# Altium footprint library linear.PCBLIB: 119 footprints (part 4 of 8)
Each footprint in its own frame and in the unit in brackets; x right, y up, seen from the top. Pads: shape width x height; smd on the part's side, far side on the other; paste and mask are expansions set on the pad; w line width, h text height; cw(c..) or ccw(c..) is an arc to the next point about the centre after c.
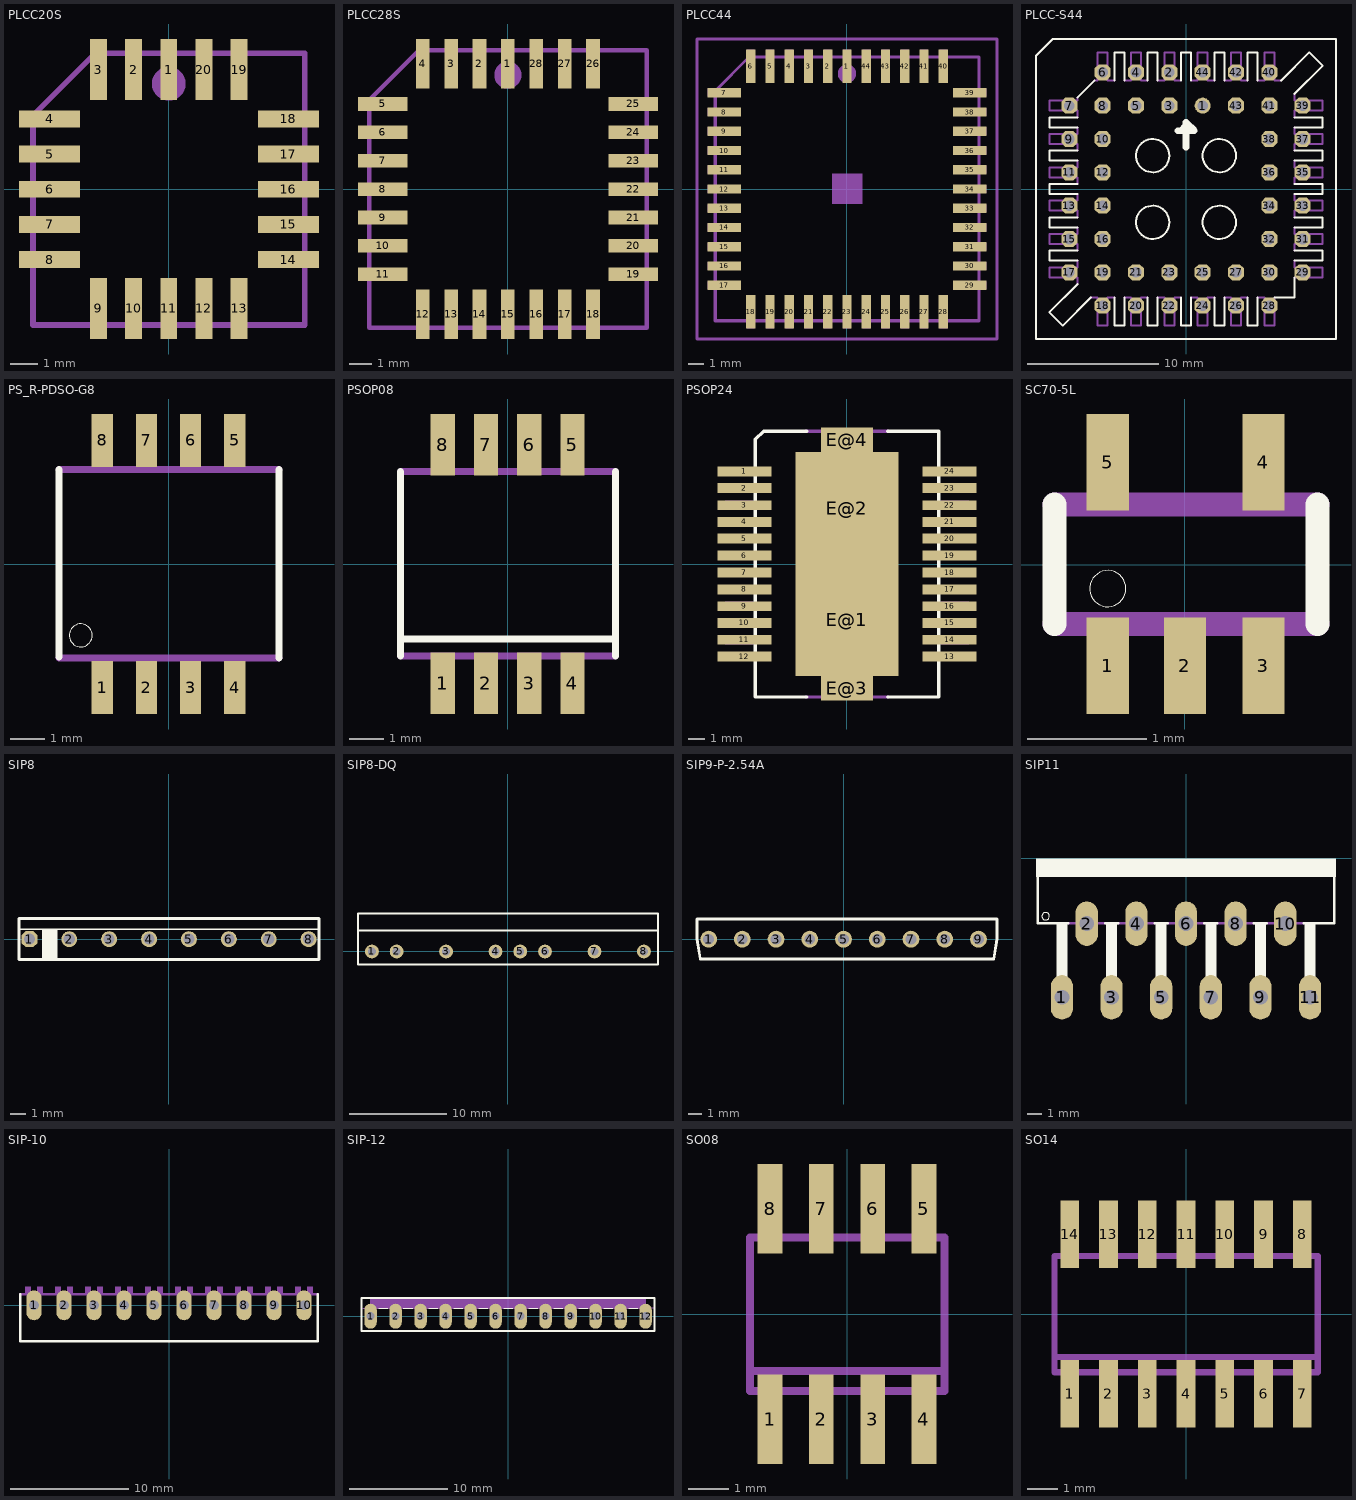
[diagram p3: the footprints below, top view; thin cyan lines are the x and y axes]

## PLCC20S [mil]
pads (20):
  rect 24x87 smd: 1(0,170) 2(-50,170) 3(-100,170) 9(-100,-169.29) 10(-50,-169.29) 11(0,-169.29) 12(50,-169.29) 13(100,-169.29) 19(100,170) 20(50,170)
  rect 87x24 smd: 4(-169.29,100) 5(-169.29,50) 6(-169.29,0) 7(-169.29,-50) 8(-169.29,-100) 14(170,-100) 15(170,-50) 16(170,0) 17(170,50) 18(170,100)
Mechanical 16:
  circle w24: c0,150 r12
  rectangle: -10.24,195 11,213
  rectangle: -60.24,195 -39.76,213
  rectangle: -110.24,195 -89.76,213
  rectangle: -212.6,90 -194.88,111
  rectangle: -212.6,40 -194.88,61
  rectangle: -212.6,-10.24 -194.88,11
  rectangle: -212.6,-60.24 -194.88,-39.76
  rectangle: -212.6,-110.24 -194.88,-89.76
  rectangle: -110.24,-212.6 -89.76,-194.88
  rectangle: -60.24,-212.6 -39.76,-194.88
  rectangle: -10.24,-212.6 11,-194.88
  rectangle: 40,-212.6 61,-194.88
  rectangle: 90,-212.6 111,-194.88
  rectangle: 195,-110.24 213,-89.76
  rectangle: 195,-60.24 213,-39.76
  rectangle: 195,-10.24 213,11
  rectangle: 195,40 213,61
  rectangle: 195,90 213,111
  rectangle: 90,195 111,213
  rectangle: 40,195 61,213
  lines w8: -192.91,-192.91 -192.91,105 -104.92,193 193,193 193,-192.91 -192.91,-192.91

## PLCC28S [mil]
pads (28):
  rect 24x87 smd: 1(0,221) 2(-50,221) 3(-100,221) 4(-150,221) 12(-150,-220.47) 13(-100,-220.47) 14(-50,-220.47) 15(0,-220.47) 16(50,-220.47) 17(100,-220.47) 18(150,-220.47) 26(150,221) 27(100,221) 28(50,221)
  rect 87x24 smd: 5(-220.47,150) 6(-220.47,100) 7(-220.47,50) 8(-220.47,0) 9(-220.47,-50) 10(-220.47,-100) 11(-220.47,-150) 19(221,-150) 20(221,-100) 21(221,-50) 22(221,0) 23(221,50) 24(221,100) 25(221,150)
Mechanical 16:
  circle w24: c0,201 r12
  rectangle: -10.24,247 11,264
  rectangle: -60.24,247 -39.76,264
  rectangle: -110.24,247 -89.76,264
  rectangle: -160.24,247 -139.76,264
  rectangle: -263.78,140 -246.06,161
  rectangle: -263.78,90 -246.06,111
  rectangle: -263.78,40 -246.06,61
  rectangle: -263.78,-10.24 -246.06,11
  rectangle: -263.78,-60.24 -246.06,-39.76
  rectangle: -263.78,-110.24 -246.06,-89.76
  rectangle: -263.78,-160.24 -246.06,-139.76
  rectangle: -160.24,-263.78 -139.76,-246.06
  rectangle: -110.24,-263.78 -89.76,-246.06
  rectangle: -60.24,-263.78 -39.76,-246.06
  rectangle: -10.24,-263.78 11,-246.06
  rectangle: 40,-263.78 61,-246.06
  rectangle: 90,-263.78 111,-246.06
  rectangle: 140,-263.78 161,-246.06
  rectangle: 247,-160.24 264,-139.76
  rectangle: 247,-110.24 264,-89.76
  rectangle: 247,-60.24 264,-39.76
  rectangle: 247,-10.24 264,11
  rectangle: 247,40 264,61
  rectangle: 247,90 264,111
  rectangle: 247,140 264,161
  rectangle: 140,247 161,264
  rectangle: 90,247 111,264
  rectangle: 40,247 61,264
  lines w8: -244.09,-244.09 -244.09,157 -156.1,245 245,245 245,-244.09 -244.09,-244.09

## PLCC44 [mil]
pads (44):
  rect 24x87 smd: 1(0,319) 2(-50,319) 3(-100,319) 4(-150,319) 5(-200,319) 6(-250,319) 18(-250,-318.9) 19(-200,-318.9) 20(-150,-318.9) 21(-100,-318.9) 22(-50,-318.9) 23(0,-318.9) 24(50,-318.9) 25(100,-318.9) 26(150,-318.9) 27(200,-318.9) 28(250,-318.9) 40(250,319) 41(200,319) 42(150,319) 43(100,319) 44(50,319)
  rect 87x24 smd: 7(-318.9,250) 8(-318.9,200) 9(-318.9,150) 10(-318.9,100) 11(-318.9,50) 12(-318.9,0) 13(-318.9,-50) 14(-318.9,-100) 15(-318.9,-150) 16(-318.9,-200) 17(-318.9,-250) 29(319,-250) 30(319,-200) 31(319,-150) 32(319,-100) 33(319,-50) 34(319,0) 35(319,50) 36(319,100) 37(319,150) 38(319,200) 39(319,250)
Mechanical 6:
  rectangle: -39.37,-39.37 40,40
Mechanical 16:
  circle w24: c0,300 r12
  rectangle: -10.24,345 11,363
  rectangle: -60.24,345 -39.76,363
  rectangle: -110.24,345 -89.76,363
  rectangle: -160.24,345 -139.76,363
  rectangle: -210.24,345 -189.76,363
  rectangle: -260.24,345 -239.76,363
  rectangle: -362.2,240 -344.49,261
  rectangle: -362.2,190 -344.49,211
  rectangle: -362.2,140 -344.49,161
  rectangle: -362.2,90 -344.49,111
  rectangle: -362.2,40 -344.49,61
  rectangle: -362.2,-10.24 -344.49,11
  rectangle: -362.2,-60.24 -344.49,-39.76
  rectangle: -362.2,-110.24 -344.49,-89.76
  rectangle: -362.2,-160.24 -344.49,-139.76
  rectangle: -362.2,-210.24 -344.49,-189.76
  rectangle: -362.2,-260.24 -344.49,-239.76
  rectangle: -260.24,-362.2 -239.76,-344.49
  rectangle: -210.24,-362.2 -189.76,-344.49
  rectangle: -160.24,-362.2 -139.76,-344.49
  rectangle: -110.24,-362.2 -89.76,-344.49
  rectangle: -60.24,-362.2 -39.76,-344.49
  rectangle: -10.24,-362.2 11,-344.49
  rectangle: 40,-362.2 61,-344.49
  rectangle: 90,-362.2 111,-344.49
  rectangle: 140,-362.2 161,-344.49
  rectangle: 190,-362.2 211,-344.49
  rectangle: 240,-362.2 261,-344.49
  rectangle: 345,-260.24 363,-239.76
  rectangle: 345,-210.24 363,-189.76
  rectangle: 345,-160.24 363,-139.76
  rectangle: 345,-110.24 363,-89.76
  rectangle: 345,-60.24 363,-39.76
  rectangle: 345,-10.24 363,11
  rectangle: 345,40 363,61
  rectangle: 345,90 363,111
  rectangle: 345,140 363,161
  rectangle: 345,190 363,211
  rectangle: 345,240 363,261
  rectangle: 240,345 261,363
  rectangle: 190,345 211,363
  rectangle: 140,345 161,363
  rectangle: 90,345 111,363
  rectangle: 40,345 61,363
  lines w8: -342.52,-342.52 -342.52,255 -254.53,343 343,343 343,-342.52 -342.52,-342.52
  text "IPC PLCC-44 Suare" at -234.65,169 h37.2
Mechanical 27:
  lines w8: -389.88,-389.88 390,-389.88 390,390 -389.88,390 -389.88,-389.88

## PLCC-S44 [mil]
pads (44):
  round 48 hole 32: 1(50,250)
  oct 48x48 hole 32: 2(-50,350) 3(-50,250) 4(-150,350) 5(-150,250) 6(-250,350) 7(-350,250) 8(-250,250) 9(-350,150) 10(-250,150) 11(-350,50) 12(-250,50) 13(-350,-50) 14(-250,-50) 15(-350,-150) 16(-250,-150) 17(-350,-250) 18(-250,-350) 19(-250,-250) 20(-150,-350) 21(-150,-250) 22(-50,-350) 23(-50,-250) 24(50,-350) 25(50,-250) 26(150,-350) 27(150,-250) 28(250,-350) 29(350,-250) 30(250,-250) 31(350,-150) 32(250,-150) 33(350,-50) 34(250,-50) 35(350,50) 36(250,50) 37(350,150) 38(250,150) 39(350,250) 40(250,350) 41(250,250) 42(150,350) 43(150,250) 44(50,350)
Top Overlay:
  circle w6: c-100,100 r50
  circle w6: c100,100 r50
  circle w6: c-100,-100 r50
  circle w6: c100,-100 r50
  lines w6: -325,-285 -410,-370 -370,-410 -285,-325 ; -325,-215 -410,-215 -410,-185 -325,-185 ; -325,-115 -410,-115 -410,-85 -325,-85 ; -325,-15 -410,-15 -410,15 -325,15 ; -325,85 -410,85 -410,115 -325,115 ; -325,185 -410,185 -410,215 -325,215 ; -325,275 -275,325 ; -215,-325 -215,-410 -185,-410 -185,-325 ; -215,325 -215,410 -185,410 -185,325 ; -115,-325 -115,-410 -85,-410 -85,-325 ; -115,325 -115,410 -85,410 -85,325 ; -25,175 0,200 ; -15,-325 -15,-410 15,-410 15,-325 ; -15,325 -15,410 15,410 15,325 ; 85,-325 85,-410 115,-410 115,-325 ; 85,325 85,410 115,410 115,325 ; 185,-325 185,-410 215,-410 215,-325 ; 185,325 185,410 215,410 215,325 ; 265,-325 325,-325 325,-265 ; 285,325 370,410 410,370 325,285 ; 325,-215 410,-215 410,-185 325,-185 ; 325,-115 410,-115 410,-85 325,-85 ; 325,-15 410,-15 410,15 325,15 ; 325,85 410,85 410,115 325,115 ; 325,185 410,185 410,215 325,215 ; -450,-450 -450,400 -400,450 450,450 450,-450 -450,-450
  lines w20: -25,175 25,175 0,200 0,125
Mechanical 16:
  lines w6: -325,-285 -325,-265 -410,-265 -410,-235 -325,-235 -325,-215 ; -325,-185 -325,-165 -410,-165 -410,-135 -325,-135 -325,-115 ; -325,-85 -325,-65 -410,-65 -410,-35 -325,-35 -325,-15 ; -325,15 -325,35 -410,35 -410,65 -325,65 -325,85 ; -325,115 -325,135 -410,135 -410,165 -325,165 -325,185 ; -325,215 -325,235 -410,235 -410,265 -325,265 -325,275 ; -285,-325 -265,-325 -265,-410 -235,-410 -235,-325 -215,-325 ; -275,325 -265,325 -265,410 -235,410 -235,325 -215,325 ; -185,-325 -165,-325 -165,-410 -135,-410 -135,-325 -115,-325 ; -185,325 -165,325 -165,410 -135,410 -135,325 -115,325 ; -85,-325 -65,-325 -65,-410 -35,-410 -35,-325 -15,-325 ; -85,325 -65,325 -65,410 -35,410 -35,325 -15,325 ; 15,-325 35,-325 35,-410 65,-410 65,-325 85,-325 ; 15,325 35,325 35,410 65,410 65,325 85,325 ; 115,-325 135,-325 135,-410 165,-410 165,-325 185,-325 ; 115,325 135,325 135,410 165,410 165,325 185,325 ; 215,-325 235,-325 235,-410 265,-410 265,-325 ; 215,325 235,325 235,410 265,410 265,325 285,325 ; 325,-265 410,-265 410,-235 325,-235 325,-215 ; 325,-185 325,-165 410,-165 410,-135 325,-135 325,-115 ; 325,-85 325,-65 410,-65 410,-35 325,-35 325,-15 ; 325,15 325,35 410,35 410,65 325,65 325,85 ; 325,115 325,135 410,135 410,165 325,165 325,185 ; 325,215 325,235 410,235 410,265 325,265 325,285

## PS_R-PDSO-G8 [mil]
pads (8):
  rect 24x60 smd: 1(-75,-139.76) 2(-25,-139.76) 3(25,-139.76) 4(75,-139.76) 5(75,140) 6(25,140) 7(-25,140) 8(-75,140)
Top Overlay:
  circle w0: c-99.41,-80.71 r13
  lines w8: -124.02,-105.31 -124.02,107 ; 125,-106.3 125,107
Mechanical 16:
  rectangle: -84.65,-161.42 -65.35,-110.24
  rectangle: -34.65,-161.42 -15.35,-110.24
  rectangle: 16,-161.42 35,-110.24
  rectangle: 66,-161.42 85,-110.24
  rectangle: 66,111 85,162
  rectangle: 16,111 35,162
  rectangle: -34.65,111 -15.35,162
  rectangle: -84.65,111 -65.35,162
  lines w8: -124.02,-106.3 125,-106.3 ; -124.02,107 125,107

## PSOP08 [mil]
pads (8):
  rect 28x71 smd: 1(-75,-137.8) 2(-25,-137.8) 3(25,-137.8) 4(75,-137.8) 5(75,138) 6(25,138) 7(-25,138) 8(-75,138)
Top Overlay:
  lines w8: -124.02,-106.3 -124.02,-86.61 ; -124.02,107 -124.02,-86.61 ; 125,-106.3 125,-86.61 ; 125,107 125,-86.61 ; -124.02,-86.61 125,-86.61
Mechanical 16:
  rectangle: -84.65,-161.42 -65.35,-108.27
  rectangle: -34.65,-161.42 -15.35,-108.27
  rectangle: 16,-161.42 35,-108.27
  rectangle: 66,-161.42 85,-108.27
  rectangle: 66,109 85,162
  rectangle: 16,109 35,162
  rectangle: -34.65,109 -15.35,162
  rectangle: -84.65,109 -65.35,162
  lines w8: -124.02,-106.3 125,-106.3 ; -124.02,107 125,107

## PSOP24 [mil]
pads (28):
  rect 126x23 smd: 1(-239.96,217) 2(-239.96,178) 3(-239.96,138) 4(-239.96,99) 5(-239.96,60) 6(-239.96,20) 7(-239.96,-19.68) 8(-239.96,-59.06) 9(-239.96,-98.43) 10(-239.96,-137.8) 11(-239.96,-177.17) 12(-239.96,-216.54) 13(240,-216.54) 14(240,-177.17) 15(240,-137.8) 16(240,-98.43) 17(240,-59.06) 18(240,-19.68) 19(240,20) 20(240,60) 21(240,99) 22(240,138) 23(240,178) 24(240,217)
  rect 242x263 smd: E@1(0,-130.71) E@2(0,131)
  rect 121x58 smd: E@3(0,-290.35) E@4(0,291)
Top Overlay:
  lines w8: -94.49,-310.96 -214.5,-310.96 -214.5,292 -194.82,311 -94.49,311 ; 95,-310.96 215,-310.96 215,311 95,311
Mechanical 16:
  rectangle: -285.43,207 -218.5,227
  rectangle: -285.43,167 -218.5,188
  rectangle: -285.43,128 -218.5,149
  rectangle: -285.43,88 -218.5,109
  rectangle: -285.43,49 -218.5,70
  rectangle: -285.43,10 -218.5,31
  rectangle: -285.43,-30.12 -218.5,-9.25
  rectangle: -285.43,-69.49 -218.5,-48.62
  rectangle: -285.43,-108.86 -218.5,-87.99
  rectangle: -285.43,-148.23 -218.5,-127.36
  rectangle: -285.43,-187.6 -218.5,-166.73
  rectangle: -285.43,-226.97 -218.5,-206.1
  rectangle: 219,-226.97 286,-206.1
  rectangle: 219,-187.6 286,-166.73
  rectangle: 219,-148.23 286,-127.36
  rectangle: 219,-108.86 286,-87.99
  rectangle: 219,-69.49 286,-48.62
  rectangle: 219,-30.12 286,-9.25
  rectangle: 219,10 286,31
  rectangle: 219,49 286,70
  rectangle: 219,88 286,109
  rectangle: 219,128 286,149
  rectangle: 219,167 286,188
  rectangle: 219,207 286,227
  lines w8: -96.39,-310.96 -55.12,-310.96 ; -96.39,311 -55.12,311 ; 97,-310.96 56,-310.96 ; 97,311 56,311 ; -55.12,-310.96 56,-310.96 ; -55.12,-310.96 -55.12,-267.72 56,-267.72 56,-310.96 ; -55.12,311 -55.12,268 56,268 56,311 ; -55.12,311 56,311

## SC70-5L [mil]
pads (5):
  rect 14x32 smd: 1(-25.59,-33.46) 2(0,-33.46) 3(26,-33.46) 4(26,34) 5(-25.59,34)
Top Overlay:
  circle w0: c-25.59,-7.87 r6
  lines w8: -43.31,-19.68 -43.31,20 ; 44,-19.68 44,20
Mechanical 16:
  rectangle: 20,24 32,44
  rectangle: -31.5,24 -19.68,44
  rectangle: -31.5,-43.31 -19.68,-23.62
  rectangle: -5.91,-43.31 6,-23.62
  rectangle: 20,-43.31 32,-23.62
  lines w8: -43.31,-19.68 44,-19.68 ; -43.31,20 44,20

## SIP8 [mil]
pads (8):
  oct 40x40 hole 28: 1(-350,0)
  round 40 hole 28: 2(-250,0) 3(-150,0) 4(-50,0) 5(50,0) 6(150,0) 7(250,0) 8(350,0)
Top Overlay:
  region: -279.13,25 -318.5,25 -318.5,-50.2 -279.13,-50.2
  lines w4: -375,25 375,25
  lines w8: -375.98,-51.18 376,-51.18 376,52 -375.98,52 -375.98,-51.18

## SIP8-DQ [mil]
pads (8):
  round 56 hole 32: 1(-550,0) 2(-450,0) 3(-250,0) 4(-50,0) 5(50,0) 6(150,0) 7(350,0) 8(550,0)
Top Overlay:
  lines w8: 607,85 -606.3,85 ; -606.3,85 -606.3,-53.15 607,-53.15 607,154 -606.3,154 -606.3,85

## SIP9-P-2.54A [mil]
pads (9):
  round 50 hole 32: 1(-400,0) 2(-300,0) 3(-200,0) 4(-100,0) 5(0,0) 6(100,0) 7(200,0) 8(300,0) 9(400,0)
Top Overlay:
  lines w8: -434.45,0 -424.61,-58.07 -424.61,-59.06 445,-59.06 455,0 455,60 -434.45,60 -434.45,0

## SIP11 [mil]
pads (11):
  oval 60x120 hole 40: 1(-335,-375) 2(-268,-176) 3(-201,-375) 4(-134,-176) 5(-67,-375) 6(0,-176) 7(67,-375) 8(134,-176) 9(201,-375) 10(268,-176) 11(335,-375)
Top Overlay:
  circle w2: c-379,-156 r10
  rectangle: -405,-50 405,0
  rectangle: -350,-325 -320,-175
  rectangle: -216,-325 -186,-175
  rectangle: -82,-325 -52,-175
  rectangle: 52,-325 82,-175
  rectangle: 186,-325 216,-175
  rectangle: 320,-325 350,-175
  lines w6: -400,-50 -400,-175 -317,-175 ; -219,-175 -183,-175 ; -85,-175 -49,-175 ; 49,-175 85,-175 ; 183,-175 219,-175 ; 317,-175 400,-175 400,-50
Mechanical 16:
  rectangle: 320,-380 350,-325
  rectangle: 186,-380 216,-325
  rectangle: 52,-380 82,-325
  rectangle: -82,-380 -52,-325
  rectangle: -216,-380 -186,-325
  rectangle: -350,-380 -320,-325
  lines w6: -317,-175 -219,-175 ; -183,-175 -85,-175 ; -49,-175 49,-175 ; 85,-175 183,-175 ; 219,-175 317,-175

## SIP-10 [mil]
pads (10):
  oval 50x100 hole 32: 1(-450,0) 2(-350,0) 3(-250,0) 4(-150,0) 5(-50,0) 6(50,0) 7(150,0) 8(250,0) 9(350,0) 10(450,0)
Top Overlay:
  lines w8: -495.87,37 -495.87,-120.28 496,-120.28 496,37
Mechanical 16:
  rectangle: -480,40 -460,62
  rectangle: -440,40 -420,62
  rectangle: -380,40 -360,62
  rectangle: -340,40 -320,62
  rectangle: -280,40 -260,62
  rectangle: -240,40 -220,62
  rectangle: -180,40 -160,62
  rectangle: -140,40 -120,62
  rectangle: -80,40 -60,62
  rectangle: -40,40 -20,62
  rectangle: 20,40 40,62
  rectangle: 60,40 80,62
  rectangle: 120,40 140,62
  rectangle: 160,40 180,62
  rectangle: 220,40 240,62
  rectangle: 260,40 280,62
  rectangle: 320,40 340,62
  rectangle: 360,40 380,62
  rectangle: 420,40 440,62
  rectangle: 460,40 480,62
  lines w8: -495.87,37 496,37

## SIP-12 [mil]
pads (12):
  oval 50x100 hole 32: 1(-550,0) 2(-450,0) 3(-350,0) 4(-250,0) 5(-150,0) 6(-50,0) 7(50,0) 8(150,0) 9(250,0) 10(350,0) 11(450,0) 12(550,0)
Top Overlay:
  lines w4: -517.72,31 -481.3,31 ; -418.31,31 -381.89,31 ; -317.72,31 -281.3,31 ; -217.72,31 -181.3,31 ; -117.72,31 -81.3,31 ; -17.72,31 19,31 ; 83,31 119,31 ; 183,31 219,31 ; 283,31 319,31 ; 383,31 419,31 ; 483,31 519,31
  lines w8: -585.63,-58.07 586,-58.07 586,72 -585.63,72 -585.63,-58.07
Mechanical 16:
  rectangle: -551.18,29 552,76
  lines w4: -581.69,31 -550.2,31 ; 551,31 582,31

## SO08 [mil]
pads (8):
  rect 24x87 smd: 1(-75,-102.36) 2(-25,-102.36) 3(25,-102.36) 4(75,-102.36) 5(75,103) 6(25,103) 7(-25,103) 8(-75,103)
Mechanical 16:
  rectangle: -84.65,-122.05 -65.35,-78.74
  rectangle: -34.65,-122.05 -15.35,-78.74
  rectangle: 16,-122.05 35,-78.74
  rectangle: 66,-122.05 85,-78.74
  rectangle: 66,79 85,123
  rectangle: 16,79 35,123
  rectangle: -34.65,79 -15.35,123
  rectangle: -84.65,79 -65.35,123
  lines w8: -94.49,-55.12 -94.49,-74.8 95,-74.8 95,-55.12 ; -94.49,-55.12 -94.49,75 95,75 95,-55.12 ; -94.49,-55.12 95,-55.12

## SO14 [mil]
pads (14):
  rect 24x87 smd: 1(-150,-102.36) 2(-100,-102.36) 3(-50,-102.36) 4(0,-102.36) 5(50,-102.36) 6(100,-102.36) 7(150,-102.36) 8(150,103) 9(100,103) 10(50,103) 11(0,103) 12(-50,103) 13(-100,103) 14(-150,103)
Mechanical 16:
  rectangle: -159.65,-122.05 -140.35,-78.74
  rectangle: -109.65,-122.05 -90.35,-78.74
  rectangle: -59.65,-122.05 -40.35,-78.74
  rectangle: -9.65,-122.05 10,-78.74
  rectangle: -9.65,79 10,123
  rectangle: -59.65,79 -40.35,123
  rectangle: -109.65,79 -90.35,123
  rectangle: -159.65,79 -140.35,123
  rectangle: 41,-122.05 60,-78.74
  rectangle: 91,-122.05 110,-78.74
  rectangle: 141,-122.05 160,-78.74
  rectangle: 141,79 160,123
  rectangle: 91,79 110,123
  rectangle: 41,79 60,123
  lines w8: -169.49,-55.12 -169.49,-74.8 170,-74.8 170,-55.12 ; -169.49,-55.12 -169.49,75 170,75 170,-55.12 ; -169.49,-55.12 170,-55.12